# Altium schematic symbol library RLC.SchLib: 218 symbols (part 1 of 3)
Pins are listed as number, name and electrical type; pins without a type are passive.

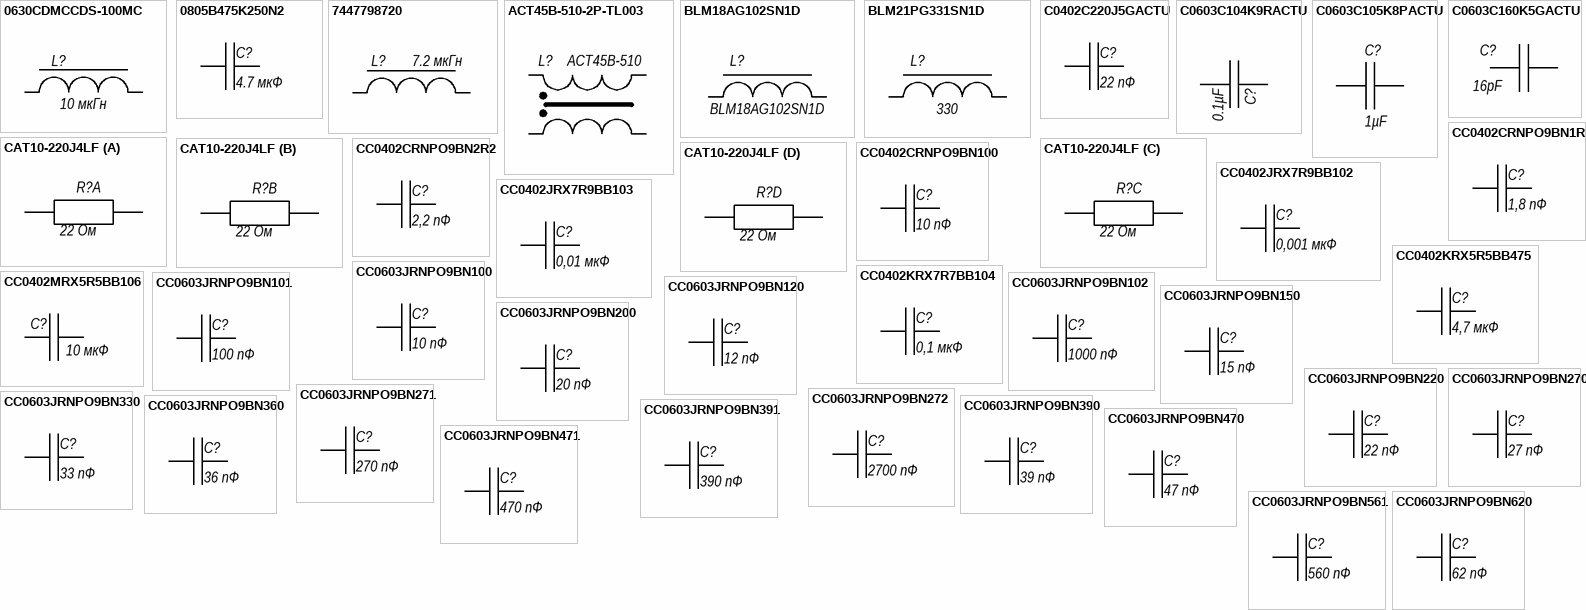
[diagram p0: symbols 0630CDMCCDS-100MC to CC0603JRNPO9BN620]

## 0630CDMCCDS-100MC
designator L?, comment 10 мкГн
0630CDMCCDS-100MC, 4A 10uH 20% 5.5A SMD,6.6x7mm Power Inductors ROHS; Manufacturer: Sumida; BOM1: SMD 10 uHr±20% 4 A; BOM2: SMD 10 мкГн±20% 4 А; ValueBOM: 0630CDMCCDS-100MC   Sumida                            (SMD 10 мкГн±20% 4 А); Part Number: 0630CDMCCDS-100MC; Value: 10 мкГн; Package: SMD 7.0mm x 6.6mm
footprint MPX1D0650 (MPX1D0650 = 6x6x5.0 mm)
pins: 1, 2

## 0805B475K250N2
designator C?, comment 4.7 мкФ
SMD 0805 -4.7 мкФ±10 %-25 В -X7R; Part Number: 0805B475K250N2; Manufacturer: HITANO; BOM1: C0805C-4.7 uF±10 %-25 V-X7R; BOM2: C0805C-4.7 мкФ ±10 % -25 В -X7R; ValueBOM: 0805B475K250N2   HITANO                            (C0805C-4.7 мкФ ±10 % -25 В -X7R); Value: 4.7 мкФ; Package: 0805
footprint CAPC_0805_2012N (Chip Capacitor, Body 2.0x1.3mm, IPC Medium Density)
footprint CAPC_0805_2012M (Chip Capacitor, Body 2.0x1.3mm, IPC Low Density)
footprint CAPC_0805_2012L (Chip Capacitor, Body 2.0x1.3mm, IPC High Density)
pins: 1, 2

## 7447798720
designator L?, comment 7.2 мкГн
WE 7447798720 Size 1064; L = 7.2 µH ±30%; IR = 8 A; Isat = 6 A; RDC = 12.8 mΩ; BOM1: WE 7447798720 7,2 uHr±30% 8 A; BOM2: WE 7447798720 7,2 мкГн±30% 8 А; ValueBOM: 7447798720   WE                            (WE 7447798720 7,2 мкГн±30% 8 А); Part Number: 7447798720; Manufacturer: WE; Value: 7.2 мкГн; Package: 1064
footprint WE-PDF_1064
pins: 1, 2

## ACT45B-510-2P-TL003
designator L?, comment ACT45B-510
51 AµH @ 100 kHz 2 Line Common Mode Choke Surface Mount 2.8 kOhms @ 10 MHz 200mA DCR 1Ohm; Part Number: ACT45B-510-2P-TL003; Manufacturer: TDK; BOM1: SMT ACT45B-510-2P-TL003; ValueBOM: ACT45B-510-2P-TL003   TDK                            (SMT ACT45B-510-2P-TL003); Value: ACT45B-510; Package: SMT ACT45B-510-2P-TL003; BOM2: SMT ACT45B-510-2P-TL003
footprint FIL_ACT45B-510-2P-TL003
pins: 1, 2, 3, 4

## BLM18AG102SN1D
designator L?
BLM18AG102SN1D Ferrite Beads Multi-Layer 1KOhm 25% 100MHz 400mA 500mOhm DCR 0603; Manufacturer: Murata; BOM1: SMD 0603 BLM18AG102SN1D; ValueBOM: BLM18AG102SN1D   Murata                            (SMD 0603 BLM18AG102SN1D); Part Number: BLM18AG102SN1D; Value: BLM18AG102SN1D; Package: 0603; BOM2: SMD 0603 BLM18AG102SN1D
footprint INDC_0603_1608N (Chip Inductor, Body 1.6x0.8mm, IPC Medium Density)
footprint INDC_0603_1608M (Chip Inductor, Body 1.6x0.8mm, IPC Low Density)
footprint INDC_0603_1608L (Chip Inductor, Body 1.6x0.8mm, IPC High Density)
pins: 1, 2

## BLM21PG331SN1D
designator L?, comment 330
BLM21PG331SN1D, Ferrite Beads Multi-Layer 330Ohm 25% 100MHz 1.5A 70mOhm DCR 0805; Manufacturer: Murata; BOM1: SMD 0805 BLM21PG331SN1D; ValueBOM: BLM21PG331SN1D   Murata                            (SMD 0805 BLM21PG331SN1D); Part Number: BLM21PG331SN1D; Value: 330; Package: 0805; BOM2: SMD 0805 BLM21PG331SN1D
footprint INDC_0805_2012N (Chip Inductor, Body 2.0x1.3mm, IPC Medium Density)
footprint INDC_0805_2012M (Chip Inductor, Body 2.0x1.3mm, IPC Low Density)
footprint INDC_0805_2012L (Chip Inductor, Body 2.0x1.3mm, IPC High Density)
pins: 1, 2

## C0402C220J5GACTU
designator C?, comment 22 пФ
SMD 0402 -22 пФ±10 %-50В -COG; Part Number: C0402C220J5GACTU; Manufacturer: Kemet; BOM1: C0402C-22 pF±10 %-50 V-COG; BOM2: C0402С-22 пФ ±10 % -50 B-COG; ValueBOM: C0402C220J5GACTU   Kemet                            (C0402С-22 пФ ±10 % -50 B-COG); Value: 22 пФ; Package: 0402
footprint CAPC_0402_1005N (Chip Capacitor, Body 1.1x0.5mm, IPC Medium Density)
footprint CAPC_0402_1005M (Chip Capacitor, Body 1.1x0.5mm, IPC Low Density)
footprint CAPC_0402_1005L (Chip Capacitor, Body 1.1x0.5mm, IPC High Density)
pins: 1, 2

## C0603C104K9RACTU
designator C?, comment 0.1µF
0603-X7R-6.3V-0.1µF±10%; Part Number: C0603C104K9RACTU; Manufacturer: Kemet; Raw Value: 100000; Tolerance: ±10%; Voltage: 6.3V; Dielectric: X7R; Value: 0.1µF; Package: 0603; Temperature Range: -50…+125 °C
footprint CAPC_0603_1608N (Chip Capacitor, Body 1.6x0.8mm, IPC Medium Density)
footprint CAPC_0603_1608M (Chip Capacitor, Body 1.6x0.8mm, IPC Low Density)
footprint CAPC_0603_1608L (Chip Capacitor, Body 1.6x0.8mm, IPC High Density)
pins: 1, 2

## C0603C105K8PACTU
designator C?, comment 1µF
0603-X5R-10V-1µF±10%; Part Number: C0603C105K8PACTU; Manufacturer: Kemet; Raw Value: 1000000; Tolerance: ±10%; Voltage: 10V; Dielectric: X5R; Value: 1µF; Package: 0603; Temperature Range: -50…+125 °C
footprint CAPC_0603_1608N (Chip Capacitor, Body 1.6x0.8mm, IPC Medium Density)
footprint CAPC_0603_1608M (Chip Capacitor, Body 1.6x0.8mm, IPC Low Density)
footprint CAPC_0603_1608L (Chip Capacitor, Body 1.6x0.8mm, IPC High Density)
pins: 1, 2

## C0603C160K5GACTU
designator C?, comment 16pF
0603-C0G-50V-16pF±10%; Part Number: C0603C160K5GACTU; Manufacturer: Kemet; Raw Value: 16; Tolerance: ±10%; Voltage: 50V; Dielectric: C0G; Value: 16pF; Package: 0603; Temperature Range: -50…+125 °C
footprint CAPC_0603_1608N (Chip Capacitor, Body 1.6x0.8mm, IPC Medium Density)
footprint CAPC_0603_1608M (Chip Capacitor, Body 1.6x0.8mm, IPC Low Density)
footprint CAPC_0603_1608L (Chip Capacitor, Body 1.6x0.8mm, IPC High Density)
pins: 1, 2

## CAT10-220J4LF
designator R?, comment 22 Ом
SMD 0804 ISO RES ARRAY 4, 22Ом 5%; Part Number: CAT10-220J4LF; Manufacturer: BOURNS; BOM1: RES ARRAY 0804 4 x 22 Ohm±5 %; BOM2: RES ARRAY 0804 4 x 22 Ом±5 %; ValueBOM: CAT10-220J4LF   BOURNS                            (RES ARRAY 0804 4 x 22 Ом±5 %); Value: 22 Ом; Package: 0804
footprint CAT10 (4 isolated resistors сoncave termination style in an 0804 size  package)
footprint Res Array 0804(4 X 0402) Concave 8-Pin SMD - duplicate (4 resistors in 2.0 mm ? 1.0 mm size / 0804 inch size)
part A pins: 1, 8
part B pins: 2, 7
part C pins: 3, 6
part D pins: 4, 5

## CC0402CRNPO9BN1R8
designator C?, comment 1,8 пФ
SMD 0402 -1,8 пФ±10 %-50В -NPO; Part Number: CC0402CRNPO9BN1R8; Manufacturer: Yageo; BOM1: C0402C-1,8 pF±10 %-50 V-NPO; BOM2: C0402С-1,8 пФ ±10 % -50 B-NPO; ValueBOM: CC0402CRNPO9BN1R8   Yageo                            (C0402С-1,8 пФ ±10 % -50 B-NPO); Value: 1,8 пФ; Package: 0402
footprint CAPC_0402_1005N (Chip Capacitor, Body 1.1x0.5mm, IPC Medium Density)
footprint CAPC_0402_1005M (Chip Capacitor, Body 1.1x0.5mm, IPC Low Density)
footprint CAPC_0402_1005L (Chip Capacitor, Body 1.1x0.5mm, IPC High Density)
pins: 1, 2

## CC0402CRNPO9BN2R2
designator C?, comment 2,2 пФ
SMD 0402 -2,2 пФ±10 %-50В -NPO; Part Number: CC0402CRNPO9BN2R2; Manufacturer: Yageo; BOM1: C0402C-2,2 pF±10 %-50 V-SMD 0402 -2,2 пФ±10 %-50В -NPO; BOM2: C0402С-2,2 пФ ±10 % -50 B-SMD 0402 -2,2 пФ±10 %-50В -NPO; ValueBOM: CC0402CRNPO9BN2R2   Yageo                            (C0402С-2,2 пФ ±10 % -50 B-SMD 0402 -2,2 пФ±10 %-50В -NPO); Value: 2,2 пФ; Package: 0402
footprint CAPC_0402_1005N (Chip Capacitor, Body 1.1x0.5mm, IPC Medium Density)
footprint CAPC_0402_1005M (Chip Capacitor, Body 1.1x0.5mm, IPC Low Density)
footprint CAPC_0402_1005L (Chip Capacitor, Body 1.1x0.5mm, IPC High Density)
pins: 1, 2

## CC0402CRNPO9BN100
designator C?, comment 10 пФ
SMD 0402 -10 пФ±10 %-50В -NPO; Part Number: CC0402CRNPO9BN100; Manufacturer: Yageo; BOM1: C0402C-10 pF±10 %-50 V-NPO; BOM2: C0402С-10 пФ ±10 % -50 B-NPO; ValueBOM: CC0402CRNPO9BN100   Yageo                            (C0402С-10 пФ ±10 % -50 B-NPO); Value: 10 пФ; Package: 0402
footprint CAPC_0402_1005N (Chip Capacitor, Body 1.1x0.5mm, IPC Medium Density)
footprint CAPC_0402_1005M (Chip Capacitor, Body 1.1x0.5mm, IPC Low Density)
footprint CAPC_0402_1005L (Chip Capacitor, Body 1.1x0.5mm, IPC High Density)
pins: 1, 2

## CC0402JRX7R9BB102
designator C?, comment 0,001 мкФ
SMD 0402 -0,001 мкФ±10 %-50В -X7R; Part Number: CC0402JRX7R9BB102; Manufacturer: Yageo; BOM1: C0402C-0,001 uF±10 %-50 V-X7R; BOM2: C0402С-0,001 мкФ ±10 % -50 B-X7R; ValueBOM: CC0402JRX7R9BB102   Yageo                            (C0402С-0,001 мкФ ±10 % -50 B-X7R); Value: 0,001 мкФ; Package: 0402
footprint CAPC_0402_1005N (Chip Capacitor, Body 1.1x0.5mm, IPC Medium Density)
footprint CAPC_0402_1005M (Chip Capacitor, Body 1.1x0.5mm, IPC Low Density)
footprint CAPC_0402_1005L (Chip Capacitor, Body 1.1x0.5mm, IPC High Density)
pins: 1, 2

## CC0402JRX7R9BB103
designator C?, comment 0,01 мкФ
SMD 0402 -0,01 мкФ±5 %-50В -X7R; Part Number: CC0402JRX7R9BB103; Manufacturer: Yageo; BOM1: C0402C-0,01 uF±5 %-50 V-X7R; BOM2: C0402С-0,01 мкФ ±5 % -50 B-X7R; ValueBOM: CC0402JRX7R9BB103   Yageo                            (C0402С-0,01 мкФ ±5 % -50 B-X7R); Value: 0,01 мкФ; Package: 0402
footprint CAPC_0402_1005N (Chip Capacitor, Body 1.1x0.5mm, IPC Medium Density)
footprint CAPC_0402_1005M (Chip Capacitor, Body 1.1x0.5mm, IPC Low Density)
footprint CAPC_0402_1005L (Chip Capacitor, Body 1.1x0.5mm, IPC High Density)
pins: 1, 2

## CC0402KRX5R5BB475
designator C?, comment 4,7 мкФ
SMD 0402 -4,7 мкФ±10 %-6,3 B-X5R; Part Number: CC0402KRX5R5BB475; Manufacturer: Yageo; BOM1: C0402C-4,7 uF±10 %-6,3 V-X5R; BOM2: C0402С-4,7 мкФ ±10 % -6,3 B-X5R; ValueBOM: CC0402KRX5R5BB475   Yageo                            (C0402С-4,7 мкФ ±10 % -6,3 B-X5R); Value: 4,7 мкФ; Package: 0402
footprint CAPC_0402_1005N (Chip Capacitor, Body 1.1x0.5mm, IPC Medium Density)
footprint CAPC_0402_1005M (Chip Capacitor, Body 1.1x0.5mm, IPC Low Density)
footprint CAPC_0402_1005L (Chip Capacitor, Body 1.1x0.5mm, IPC High Density)
pins: 1, 2

## CC0402KRX7R7BB104
designator C?, comment 0,1 мкФ
SMD 0402 -0,1 мкФ±10 %-16В -X7R; Part Number: CC0402KRX7R7BB104; Manufacturer: Yageo; BOM1: C0402C-0,1 uF±10 %-16 V-X7R; BOM2: C0402С-0,1 мкФ ±10 % -16 B-X7R; ValueBOM: CC0402KRX7R7BB104   Yageo                            (C0402С-0,1 мкФ ±10 % -16 B-X7R); Value: 0,1 мкФ; Package: 0402
footprint CAPC_0402_1005N (Chip Capacitor, Body 1.1x0.5mm, IPC Medium Density)
footprint CAPC_0402_1005M (Chip Capacitor, Body 1.1x0.5mm, IPC Low Density)
footprint CAPC_0402_1005L (Chip Capacitor, Body 1.1x0.5mm, IPC High Density)
pins: 1, 2

## CC0402MRX5R5BB106
designator C?, comment 10 мкФ
SMD 0402 -10 мкФ±10 %-6,3 B-X5R; Part Number: CC0402MRX5R5BB106; Manufacturer: Yageo; BOM1: C0402C-10 uF±10 %-6,3 V-X5R; BOM2: C0402С-10 мкФ ±10 % -6,3 B-X5R; ValueBOM: CC0402MRX5R5BB106   Yageo                            (C0402С-10 мкФ ±10 % -6,3 B-X5R); Value: 10 мкФ; Package: 0402
footprint CAPC_0402_1005N (Chip Capacitor, Body 1.1x0.5mm, IPC Medium Density)
footprint CAPC_0402_1005M (Chip Capacitor, Body 1.1x0.5mm, IPC Low Density)
footprint CAPC_0402_1005L (Chip Capacitor, Body 1.1x0.5mm, IPC High Density)
pins: 1, 2

## CC0603JRNPO9BN100
designator C?, comment 10 пФ
SMD 0603 -10 пФ±5 %-50В -NP0; Part Number: CC0603JRNPO9BN100; Manufacturer: Yageo; BOM1: C0603C-10 pF±5 %-50 V-NP0; BOM2: C0603С-10 пФ ±5 % -50 B-NPO; ValueBOM: CC0603JRNPO9BN100   Yageo                            (C0603С-10 пФ ±5 % -50 B-NPO); Value: 10 пФ; Package: 0603
footprint CAPC_0603_1608N (Chip Capacitor, Body 1.6x0.8mm, IPC Medium Density)
footprint CAPC_0603_1608M (Chip Capacitor, Body 1.6x0.8mm, IPC Low Density)
footprint CAPC_0603_1608L (Chip Capacitor, Body 1.6x0.8mm, IPC High Density)
pins: 1, 2

## CC0603JRNPO9BN101
designator C?, comment 100 пФ
SMD 0603 -100 пФ±5 %-50В -NP0; Part Number: CC0603JRNPO9BN101; Manufacturer: Yageo; BOM1: C0603C-100 pF±5 %-50 V-NP0; BOM2: C0603С-100 пФ ±5 % -50 B-NPO; ValueBOM: CC0603JRNPO9BN101   Yageo                            (C0603С-100 пФ ±5 % -50 B-NPO); Value: 100 пФ; Package: 0603
footprint CAPC_0603_1608N (Chip Capacitor, Body 1.6x0.8mm, IPC Medium Density)
footprint CAPC_0603_1608M (Chip Capacitor, Body 1.6x0.8mm, IPC Low Density)
footprint CAPC_0603_1608L (Chip Capacitor, Body 1.6x0.8mm, IPC High Density)
pins: 1, 2

## CC0603JRNPO9BN102
designator C?, comment 1000 пФ
SMD 0603 -1000 пФ±5 %-50В -NP0; Part Number: CC0603JRNPO9BN102; Manufacturer: Yageo; BOM1: C0603C-1000 pF±5 %-50 V-NP0; BOM2: C0603С-1000 пФ ±5 % -50 B-NPO; ValueBOM: CC0603JRNPO9BN102   Yageo                            (C0603С-1000 пФ ±5 % -50 B-NPO); Value: 1000 пФ; Package: 0603
footprint CAPC_0603_1608N (Chip Capacitor, Body 1.6x0.8mm, IPC Medium Density)
footprint CAPC_0603_1608M (Chip Capacitor, Body 1.6x0.8mm, IPC Low Density)
footprint CAPC_0603_1608L (Chip Capacitor, Body 1.6x0.8mm, IPC High Density)
pins: 1, 2

## CC0603JRNPO9BN120
designator C?, comment 12 пФ
SMD 0603 -12 пФ±5 %-50В -NP0; Part Number: CC0603JRNPO9BN120; Manufacturer: Yageo; BOM1: C0603C-12 pF±5 %-50 V-NP0; BOM2: C0603С-12 пФ ±5 % -50 B-NPO; ValueBOM: CC0603JRNPO9BN120   Yageo                            (C0603С-12 пФ ±5 % -50 B-NPO); Value: 12 пФ; Package: 0603
footprint CAPC_0603_1608N (Chip Capacitor, Body 1.6x0.8mm, IPC Medium Density)
footprint CAPC_0603_1608M (Chip Capacitor, Body 1.6x0.8mm, IPC Low Density)
footprint CAPC_0603_1608L (Chip Capacitor, Body 1.6x0.8mm, IPC High Density)
pins: 1, 2

## CC0603JRNPO9BN150
designator C?, comment 15 пФ
SMD 0603 -15 пФ±5 %-50В -NP0; Part Number: CC0603JRNPO9BN150; Manufacturer: Yageo; BOM1: C0603C-15 pF±5 %-50 V-NP0; BOM2: C0603С-15 пФ ±5 % -50 B-NPO; ValueBOM: CC0603JRNPO9BN150   Yageo                            (C0603С-15 пФ ±5 % -50 B-NPO); Value: 15 пФ; Package: 0603
footprint CAPC_0603_1608N (Chip Capacitor, Body 1.6x0.8mm, IPC Medium Density)
footprint CAPC_0603_1608M (Chip Capacitor, Body 1.6x0.8mm, IPC Low Density)
footprint CAPC_0603_1608L (Chip Capacitor, Body 1.6x0.8mm, IPC High Density)
pins: 1, 2

## CC0603JRNPO9BN200
designator C?, comment 20 пФ
SMD 0603 -20 пФ±5 %-50В -NP0; Part Number: CC0603JRNPO9BN200; Manufacturer: Yageo; BOM1: C0603C-20 pF±5 %-50 V-NP0; BOM2: C0603С-20 пФ ±5 % -50 B-NPO; ValueBOM: CC0603JRNPO9BN200   Yageo                            (C0603С-20 пФ ±5 % -50 B-NPO); Value: 20 пФ; Package: 0603
footprint CAPC_0603_1608N (Chip Capacitor, Body 1.6x0.8mm, IPC Medium Density)
footprint CAPC_0603_1608M (Chip Capacitor, Body 1.6x0.8mm, IPC Low Density)
footprint CAPC_0603_1608L (Chip Capacitor, Body 1.6x0.8mm, IPC High Density)
pins: 1, 2

## CC0603JRNPO9BN220
designator C?, comment 22 пФ
SMD 0603 -22 пФ±5 %-50В -NP0; Part Number: CC0603JRNPO9BN220; Manufacturer: Yageo; BOM1: C0603C-22 pF±5 %-50 V-NP0; BOM2: C0603С-22 пФ ±5 % -50 B-NPO; ValueBOM: CC0603JRNPO9BN220   Yageo                            (C0603С-22 пФ ±5 % -50 B-NPO); Value: 22 пФ; Package: 0603
footprint CAPC_0603_1608N (Chip Capacitor, Body 1.6x0.8mm, IPC Medium Density)
footprint CAPC_0603_1608M (Chip Capacitor, Body 1.6x0.8mm, IPC Low Density)
footprint CAPC_0603_1608L (Chip Capacitor, Body 1.6x0.8mm, IPC High Density)
pins: 1, 2

## CC0603JRNPO9BN270
designator C?, comment 27 пФ
SMD 0603 -27 пФ±5 %-50В -NP0; Part Number: CC0603JRNPO9BN270; Manufacturer: Yageo; BOM1: C0603C-27 pF±5 %-50 V-NP0; BOM2: C0603С-27 пФ ±5 % -50 B-NPO; ValueBOM: CC0603JRNPO9BN270   Yageo                            (C0603С-27 пФ ±5 % -50 B-NPO); Value: 27 пФ; Package: 0603
footprint CAPC_0603_1608N (Chip Capacitor, Body 1.6x0.8mm, IPC Medium Density)
footprint CAPC_0603_1608M (Chip Capacitor, Body 1.6x0.8mm, IPC Low Density)
footprint CAPC_0603_1608L (Chip Capacitor, Body 1.6x0.8mm, IPC High Density)
pins: 1, 2

## CC0603JRNPO9BN271
designator C?, comment 270 пФ
SMD 0603 -270 пФ±5 %-50В -NP0; Part Number: CC0603JRNPO9BN271; Manufacturer: Yageo; BOM1: C0603C-270 pF±5 %-50 V-NP0; BOM2: C0603С-270 пФ ±5 % -50 B-NPO; ValueBOM: CC0603JRNPO9BN271   Yageo                            (C0603С-270 пФ ±5 % -50 B-NPO); Value: 270 пФ; Package: 0603
footprint CAPC_0603_1608N (Chip Capacitor, Body 1.6x0.8mm, IPC Medium Density)
footprint CAPC_0603_1608M (Chip Capacitor, Body 1.6x0.8mm, IPC Low Density)
footprint CAPC_0603_1608L (Chip Capacitor, Body 1.6x0.8mm, IPC High Density)
pins: 1, 2

## CC0603JRNPO9BN272
designator C?, comment 2700 пФ
SMD 0603 -2700 пФ±5 %-50В -NP0; Part Number: CC0603JRNPO9BN272; Manufacturer: Yageo; BOM1: C0603C-2700 pF±5 %-50 V-NP0; BOM2: C0603С-2700 пФ ±5 % -50 B-NPO; ValueBOM: CC0603JRNPO9BN272   Yageo                            (C0603С-2700 пФ ±5 % -50 B-NPO); Value: 2700 пФ; Package: 0603
footprint CAPC_0603_1608N (Chip Capacitor, Body 1.6x0.8mm, IPC Medium Density)
footprint CAPC_0603_1608M (Chip Capacitor, Body 1.6x0.8mm, IPC Low Density)
footprint CAPC_0603_1608L (Chip Capacitor, Body 1.6x0.8mm, IPC High Density)
pins: 1, 2

## CC0603JRNPO9BN330
designator C?, comment 33 пФ
SMD 0603 -33 пФ±5 %-50В -NP0; Part Number: CC0603JRNPO9BN330; Manufacturer: Yageo; BOM1: C0603C-33 pF±5 %-50 V-NP0; BOM2: C0603С-33 пФ ±5 % -50 B-NPO; ValueBOM: CC0603JRNPO9BN330   Yageo                            (C0603С-33 пФ ±5 % -50 B-NPO); Value: 33 пФ; Package: 0603
footprint CAPC_0603_1608N (Chip Capacitor, Body 1.6x0.8mm, IPC Medium Density)
footprint CAPC_0603_1608M (Chip Capacitor, Body 1.6x0.8mm, IPC Low Density)
footprint CAPC_0603_1608L (Chip Capacitor, Body 1.6x0.8mm, IPC High Density)
pins: 1, 2

## CC0603JRNPO9BN360
designator C?, comment 36 пФ
SMD 0603 -36 пФ±5 %-50В -NP0; Part Number: CC0603JRNPO9BN360; Manufacturer: Yageo; BOM1: C0603C-36 pF±5 %-50 V-NP0; BOM2: C0603С-36 пФ ±5 % -50 B-NPO; ValueBOM: CC0603JRNPO9BN360   Yageo                            (C0603С-36 пФ ±5 % -50 B-NPO); Value: 36 пФ; Package: 0603
footprint CAPC_0603_1608N (Chip Capacitor, Body 1.6x0.8mm, IPC Medium Density)
footprint CAPC_0603_1608M (Chip Capacitor, Body 1.6x0.8mm, IPC Low Density)
footprint CAPC_0603_1608L (Chip Capacitor, Body 1.6x0.8mm, IPC High Density)
pins: 1, 2

## CC0603JRNPO9BN390
designator C?, comment 39 пФ
SMD 0603 -39 пФ±5 %-50В -NP0; Part Number: CC0603JRNPO9BN390; Manufacturer: Yageo; BOM1: C0603C-39 pF±5 %-50 V-NP0; BOM2: C0603С-39 пФ ±5 % -50 B-NPO; ValueBOM: CC0603JRNPO9BN390   Yageo                            (C0603С-39 пФ ±5 % -50 B-NPO); Value: 39 пФ; Package: 0603
footprint CAPC_0603_1608N (Chip Capacitor, Body 1.6x0.8mm, IPC Medium Density)
footprint CAPC_0603_1608M (Chip Capacitor, Body 1.6x0.8mm, IPC Low Density)
footprint CAPC_0603_1608L (Chip Capacitor, Body 1.6x0.8mm, IPC High Density)
pins: 1, 2

## CC0603JRNPO9BN391
designator C?, comment 390 пФ
SMD 0603 -390 пФ±5 %-50В -NP0; Part Number: CC0603JRNPO9BN391; Manufacturer: Yageo; BOM1: C0603C-390 pF±5 %-50 V-NP0; BOM2: C0603С-390 пФ ±5 % -50 B-NPO; ValueBOM: CC0603JRNPO9BN391   Yageo                            (C0603С-390 пФ ±5 % -50 B-NPO); Value: 390 пФ; Package: 0603
footprint CAPC_0603_1608N (Chip Capacitor, Body 1.6x0.8mm, IPC Medium Density)
footprint CAPC_0603_1608M (Chip Capacitor, Body 1.6x0.8mm, IPC Low Density)
footprint CAPC_0603_1608L (Chip Capacitor, Body 1.6x0.8mm, IPC High Density)
pins: 1, 2

## CC0603JRNPO9BN470
designator C?, comment 47 пФ
SMD 0603 -47 пФ±5 %-50В -NP0; Part Number: CC0603JRNPO9BN470; Manufacturer: Yageo; BOM1: C0603C-47 pF±5 %-50 V-NP0; BOM2: C0603С-47 пФ ±5 % -50 B-NPO; ValueBOM: CC0603JRNPO9BN470   Yageo                            (C0603С-47 пФ ±5 % -50 B-NPO); Value: 47 пФ; Package: 0603
footprint CAPC_0603_1608N (Chip Capacitor, Body 1.6x0.8mm, IPC Medium Density)
footprint CAPC_0603_1608M (Chip Capacitor, Body 1.6x0.8mm, IPC Low Density)
footprint CAPC_0603_1608L (Chip Capacitor, Body 1.6x0.8mm, IPC High Density)
pins: 1, 2

## CC0603JRNPO9BN471
designator C?, comment 470 пФ
SMD 0603 -470 пФ±5 %-50В -NP0; Part Number: CC0603JRNPO9BN471; Manufacturer: Yageo; BOM1: C0603C-470 pF±5 %-50 V-NP0; BOM2: C0603С-470 пФ ±5 % -50 B-NPO; ValueBOM: CC0603JRNPO9BN471   Yageo                            (C0603С-470 пФ ±5 % -50 B-NPO); Value: 470 пФ; Package: 0603
footprint CAPC_0603_1608N (Chip Capacitor, Body 1.6x0.8mm, IPC Medium Density)
footprint CAPC_0603_1608M (Chip Capacitor, Body 1.6x0.8mm, IPC Low Density)
footprint CAPC_0603_1608L (Chip Capacitor, Body 1.6x0.8mm, IPC High Density)
pins: 1, 2

## CC0603JRNPO9BN561
designator C?, comment 560 пФ
SMD 0603 -560 пФ±5 %-50В -NP0; Part Number: CC0603JRNPO9BN561; Manufacturer: Yageo; BOM1: C0603C-560 pF±5 %-50 V-NP0; BOM2: C0603С-560 пФ ±5 % -50 B-NPO; ValueBOM: CC0603JRNPO9BN561   Yageo                            (C0603С-560 пФ ±5 % -50 B-NPO); Value: 560 пФ; Package: 0603
footprint CAPC_0603_1608N (Chip Capacitor, Body 1.6x0.8mm, IPC Medium Density)
footprint CAPC_0603_1608M (Chip Capacitor, Body 1.6x0.8mm, IPC Low Density)
footprint CAPC_0603_1608L (Chip Capacitor, Body 1.6x0.8mm, IPC High Density)
pins: 1, 2

## CC0603JRNPO9BN620
designator C?, comment 62 пФ
SMD 0603 -62 пФ±5 %-50В -NP0; Part Number: CC0603JRNPO9BN620; Manufacturer: Yageo; BOM1: C0603C-62 pF±5 %-50 V-NP0; BOM2: C0603С-62 пФ ±5 % -50 B-NPO; ValueBOM: CC0603JRNPO9BN620   Yageo                            (C0603С-62 пФ ±5 % -50 B-NPO); Value: 62 пФ; Package: 0603
footprint CAPC_0603_1608N (Chip Capacitor, Body 1.6x0.8mm, IPC Medium Density)
footprint CAPC_0603_1608M (Chip Capacitor, Body 1.6x0.8mm, IPC Low Density)
footprint CAPC_0603_1608L (Chip Capacitor, Body 1.6x0.8mm, IPC High Density)
pins: 1, 2

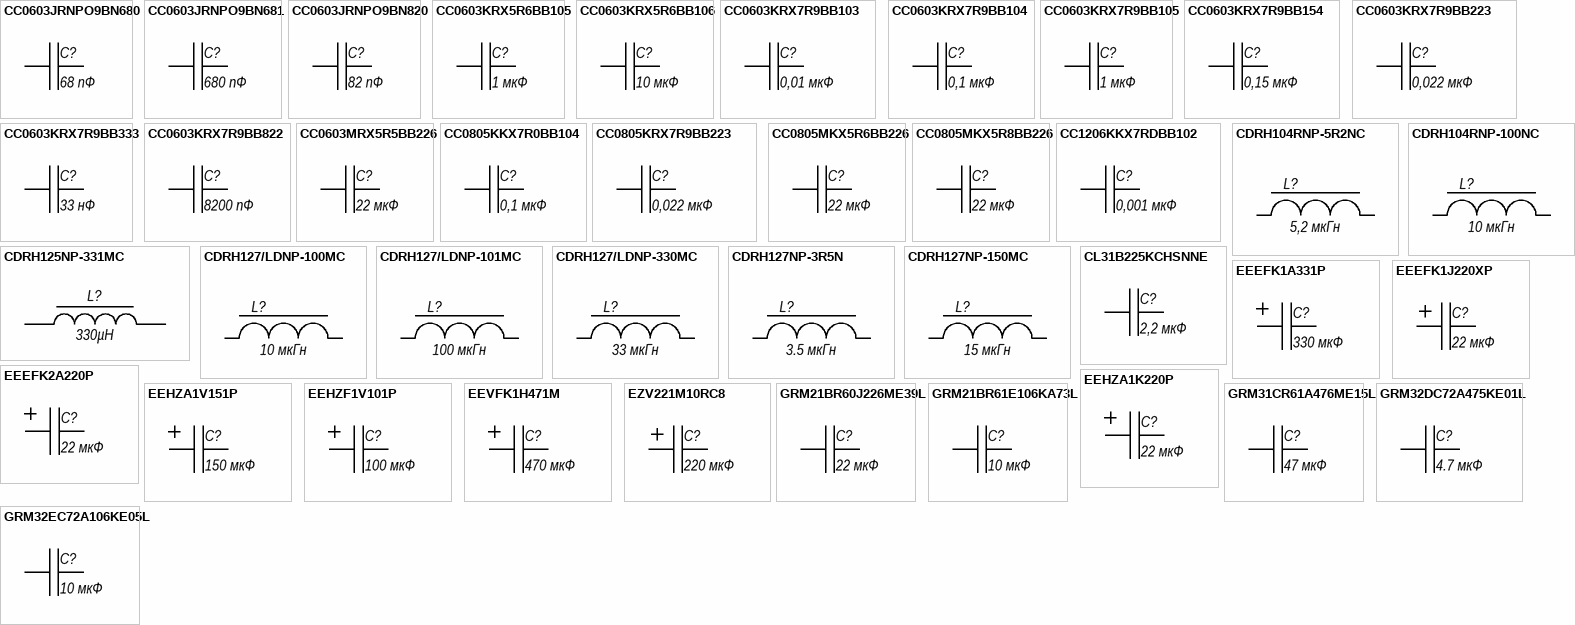
[diagram p1: symbols CC0603JRNPO9BN680 to GRM32EC72A106KE05L]

## CC0603JRNPO9BN680
designator C?, comment 68 пФ
SMD 0603 -68 пФ±5 %-50В -NP0; Part Number: CC0603JRNPO9BN680; Manufacturer: Yageo; BOM1: C0603C-68 pF±5 %-50 V-NP0; BOM2: C0603С-68 пФ ±5 % -50 B-NPO; ValueBOM: CC0603JRNPO9BN680   Yageo                            (C0603С-68 пФ ±5 % -50 B-NPO); Value: 68 пФ; Package: 0603
footprint CAPC_0603_1608N (Chip Capacitor, Body 1.6x0.8mm, IPC Medium Density)
footprint CAPC_0603_1608M (Chip Capacitor, Body 1.6x0.8mm, IPC Low Density)
footprint CAPC_0603_1608L (Chip Capacitor, Body 1.6x0.8mm, IPC High Density)
pins: 1, 2

## CC0603JRNPO9BN681
designator C?, comment 680 пФ
SMD 0603 -680 пФ±5 %-50В -NP0; Part Number: CC0603JRNPO9BN681; Manufacturer: Yageo; BOM1: C0603C-680 pF±5 %-50 V-NP0; BOM2: C0603С-680 пФ ±5 % -50 B-NPO; ValueBOM: CC0603JRNPO9BN681   Yageo                            (C0603С-680 пФ ±5 % -50 B-NPO); Value: 680 пФ; Package: 0603
footprint CAPC_0603_1608N (Chip Capacitor, Body 1.6x0.8mm, IPC Medium Density)
footprint CAPC_0603_1608M (Chip Capacitor, Body 1.6x0.8mm, IPC Low Density)
footprint CAPC_0603_1608L (Chip Capacitor, Body 1.6x0.8mm, IPC High Density)
pins: 1, 2

## CC0603JRNPO9BN820
designator C?, comment 82 пФ
SMD 0603 -82 пФ±5 %-50В -NP0; Part Number: CC0603JRNPO9BN820; Manufacturer: Yageo; BOM1: C0603C-82 pF±5 %-50 V-NP0; BOM2: C0603С-82 пФ ±5 % -50 B-NPO; ValueBOM: CC0603JRNPO9BN820   Yageo                            (C0603С-82 пФ ±5 % -50 B-NPO); Value: 82 пФ; Package: 0603
footprint CAPC_0603_1608N (Chip Capacitor, Body 1.6x0.8mm, IPC Medium Density)
footprint CAPC_0603_1608M (Chip Capacitor, Body 1.6x0.8mm, IPC Low Density)
footprint CAPC_0603_1608L (Chip Capacitor, Body 1.6x0.8mm, IPC High Density)
pins: 1, 2

## CC0603KRX5R6BB105
designator C?, comment 1 мкФ
SMD 0603 -1 мкФ±10 %-10 B-X5R; Part Number: CC0603KRX5R6BB105; Manufacturer: Yageo; BOM1: C0603C-1 uF±10 %-10 V-X5R; BOM2: C0603С-1 мкФ ±10 % -10 B-X5R; ValueBOM: CC0603KRX5R6BB105   Yageo                            (C0603С-1 мкФ ±10 % -10 B-X5R); Value: 1 мкФ; Package: 0603
footprint CAPC_0603_1608N (Chip Capacitor, Body 1.6x0.8mm, IPC Medium Density)
footprint CAPC_0603_1608M (Chip Capacitor, Body 1.6x0.8mm, IPC Low Density)
footprint CAPC_0603_1608L (Chip Capacitor, Body 1.6x0.8mm, IPC High Density)
pins: 1, 2

## CC0603KRX5R6BB106
designator C?, comment 10 мкФ
SMD 0603 -10 мкФ±10 %-10 B-X5R; Part Number: CC0603KRX5R6BB106; Manufacturer: Yageo; BOM1: C0603C-10 uF±10 %-10 V-X5R; BOM2: C0603С-10 мкФ ±10 % -10 B-X5R; ValueBOM: CC0603KRX5R6BB106   Yageo                            (C0603С-10 мкФ ±10 % -10 B-X5R); Value: 10 мкФ; Package: 0603
footprint CAPC_0603_1608N (Chip Capacitor, Body 1.6x0.8mm, IPC Medium Density)
footprint CAPC_0603_1608M (Chip Capacitor, Body 1.6x0.8mm, IPC Low Density)
footprint CAPC_0603_1608L (Chip Capacitor, Body 1.6x0.8mm, IPC High Density)
pins: 1, 2

## CC0603KRX7R9BB103
designator C?, comment 0,01 мкФ
SMD 0603 -0,01 мкФ±5 %-50В -X7R; Part Number: CC0603KRX7R9BB103; Manufacturer: Yageo; BOM1: C0603C-0.01 uF ±5 % -50 V-X7R; BOM2: C0603С-0,01 мкФ ±5 % -50 B-X7R; ValueBOM: CC0603KRX7R9BB103   Yageo                            (C0603С-0,01 мкФ ±5 % -50 B-X7R); Value: 0,01 мкФ; Package: 0603
footprint CAPC_0603_1608N (Chip Capacitor, Body 1.6x0.8mm, IPC Medium Density)
footprint CAPC_0603_1608M (Chip Capacitor, Body 1.6x0.8mm, IPC Low Density)
footprint CAPC_0603_1608L (Chip Capacitor, Body 1.6x0.8mm, IPC High Density)
pins: 1, 2

## CC0603KRX7R9BB104
designator C?, comment 0,1 мкФ
SMD 0603 -0,1 мкФ±10 %-50В -X7R; Part Number: CC0603KRX7R9BB104; Manufacturer: Yageo; BOM1: C0603C-0,1 uF±10 %-50 V-X7R; BOM2: C0603С-0,1 мкФ ±5 % -50 B-X7R; ValueBOM: CC0603KRX7R9BB104   Yageo                            (C0603С-0,1 мкФ ±5 % -50 B-X7R); Value: 0,1 мкФ; Package: 0603
footprint CAPC_0603_1608N (Chip Capacitor, Body 1.6x0.8mm, IPC Medium Density)
footprint CAPC_0603_1608M (Chip Capacitor, Body 1.6x0.8mm, IPC Low Density)
footprint CAPC_0603_1608L (Chip Capacitor, Body 1.6x0.8mm, IPC High Density)
pins: 1, 2

## CC0603KRX7R9BB105
designator C?, comment 1 мкФ
SMD 0603 -1 мкФ±10 %-50В -X7R; Part Number: CC0603KRX7R9BB105; Manufacturer: Yageo; BOM1: C0603C-1 uF±10 %-50 V-X7R; BOM2: C0603С-1 мкФ ±5 % -50 B-X7R; ValueBOM: CC0603KRX7R9BB105   Yageo                            (C0603С-1 мкФ ±5 % -50 B-X7R); Value: 1 мкФ; Package: 0603
footprint CAPC_0603_1608N (Chip Capacitor, Body 1.6x0.8mm, IPC Medium Density)
footprint CAPC_0603_1608M (Chip Capacitor, Body 1.6x0.8mm, IPC Low Density)
footprint CAPC_0603_1608L (Chip Capacitor, Body 1.6x0.8mm, IPC High Density)
pins: 1, 2

## CC0603KRX7R9BB154
designator C?, comment 0,15 мкФ
SMD 0603 -0,15 мкФ±10 %-50В -X7R; Part Number: CC0603KRX7R9BB154; Manufacturer: Yageo; BOM1: C0603C-0,15 uF±10 %-50 V-X7R; BOM2: C0603С-0,15 мкФ ±10 % -50 B-X7R; ValueBOM: CC0603KRX7R9BB154   Yageo                            (C0603С-0,15 мкФ ±10 % -50 B-X7R); Value: 0,15 мкФ; Package: 0603
footprint CAPC_0603_1608N (Chip Capacitor, Body 1.6x0.8mm, IPC Medium Density)
footprint CAPC_0603_1608M (Chip Capacitor, Body 1.6x0.8mm, IPC Low Density)
footprint CAPC_0603_1608L (Chip Capacitor, Body 1.6x0.8mm, IPC High Density)
pins: 1, 2

## CC0603KRX7R9BB223
designator C?, comment 0,022 мкФ
SMD 0603 -0,022 мкФ±5 %-50В -X7R; Part Number: CC0603KRX7R9BB223; Manufacturer: Yageo; BOM1: C0603C-0,022 uF ±5 %-50 V-X7R; BOM2: C0603С-0,022 мкФ ±5 % -50 B-X7R; ValueBOM: CC0603KRX7R9BB223   Yageo                            (C0603С-0,022 мкФ ±5 % -50 B-X7R); Value: 0,022 мкФ; Package: 0603
footprint CAPC_0603_1608N (Chip Capacitor, Body 1.6x0.8mm, IPC Medium Density)
footprint CAPC_0603_1608M (Chip Capacitor, Body 1.6x0.8mm, IPC Low Density)
footprint CAPC_0603_1608L (Chip Capacitor, Body 1.6x0.8mm, IPC High Density)
pins: 1, 2

## CC0603KRX7R9BB333
designator C?, comment 33 нФ
SMD 0603 -0,033 мкФ±10 %-50В -X7R; Part Number: CC0603KRX7R9BB333; Manufacturer: Yageo; BOM1: C0603C-0.033u F±10 %-50 V-X7R; BOM2: C0603С-0.033 мкФ ±10 % -50 B-X7R; ValueBOM: CC0603KRX7R9BB333   Yageo                            (C0603С-0.033 мкФ ±10 % -50 B-X7R); Value: 33 нФ; Package: 0603
footprint CAPC_0603_1608N (Chip Capacitor, Body 1.6x0.8mm, IPC Medium Density)
footprint CAPC_0603_1608M (Chip Capacitor, Body 1.6x0.8mm, IPC Low Density)
footprint CAPC_0603_1608L (Chip Capacitor, Body 1.6x0.8mm, IPC High Density)
pins: 1, 2

## CC0603KRX7R9BB822
designator C?, comment 8200 пФ
SMD 0603 -8200 пФ±5 %-50В -X7R; Part Number: CC0603KRX7R9BB822; Manufacturer: Yageo; BOM1: C0603C-8200 pF±5 %-50 V-X7R; BOM2: C0603С-8200 пФ ±5 % -50 B-X7R; ValueBOM: CC0603KRX7R9BB822   Yageo                            (C0603С-8200 пФ ±5 % -50 B-X7R); Value: 8200 пФ; Package: 0603
footprint CAPC_0603_1608N (Chip Capacitor, Body 1.6x0.8mm, IPC Medium Density)
footprint CAPC_0603_1608M (Chip Capacitor, Body 1.6x0.8mm, IPC Low Density)
footprint CAPC_0603_1608L (Chip Capacitor, Body 1.6x0.8mm, IPC High Density)
pins: 1, 2

## CC0603MRX5R5BB226
designator C?, comment 22 мкФ
SMD 0603 -22 мкФ±10 %-6,3 B-X5R; Part Number: CC0603MRX5R5BB226; Manufacturer: Yageo; BOM1: C0603C-22 uF±10 %-6,3 V-X5R; BOM2: C0603С-22 мкФ ±10 % -6,3 B-X5R; ValueBOM: CC0603MRX5R5BB226   Yageo                            (C0603С-22 мкФ ±10 % -6,3 B-X5R); Value: 22 мкФ; Package: 0603
footprint CAPC_0603_1608N (Chip Capacitor, Body 1.6x0.8mm, IPC Medium Density)
footprint CAPC_0603_1608M (Chip Capacitor, Body 1.6x0.8mm, IPC Low Density)
footprint CAPC_0603_1608L (Chip Capacitor, Body 1.6x0.8mm, IPC High Density)
pins: 1, 2

## CC0805KKX7R0BB104
designator C?, comment 0,1 мкФ
SMD 0805 -0,1 мкФ±10 %-100В -X7R; Part Number: CC0805KKX7R0BB104; Manufacturer: Yageo; BOM1: C0805C-0,1 uF±10 %-100 V-X7R; BOM2: C0805С-0,1 мкФ ±10 % -100 B-X7R; ValueBOM: CC0805KKX7R0BB104   Yageo                            (C0805С-0,1 мкФ ±10 % -100 B-X7R); Value: 0,1 мкФ; Package: 0805
footprint CAPC_0805_2012N (Chip Capacitor, Body 2.0x1.3mm, IPC Medium Density)
footprint CAPC_0805_2012M (Chip Capacitor, Body 2.0x1.3mm, IPC Low Density)
footprint CAPC_0805_2012L (Chip Capacitor, Body 2.0x1.3mm, IPC High Density)
pins: 1, 2

## CC0805KRX7R9BB223
designator C?, comment 0,022 мкФ
SMD 0805 -0,022 мкФ±10 %-100В -X7R; Part Number: CC0805KRX7R9BB223; Manufacturer: Yageo; BOM1: C0805C-0,022 uF±10 %-100 V-X7R; BOM2: C0805С-0,022 мкФ ±10 % -100 B-X7R; ValueBOM: CC0805KRX7R9BB223   Yageo                            (C0805С-0,022 мкФ ±10 % -100 B-X7R); Value: 0,022 мкФ; Package: 0805
footprint CAPC_0805_2012N (Chip Capacitor, Body 2.0x1.3mm, IPC Medium Density)
footprint CAPC_0805_2012M (Chip Capacitor, Body 2.0x1.3mm, IPC Low Density)
footprint CAPC_0805_2012L (Chip Capacitor, Body 2.0x1.3mm, IPC High Density)
pins: 1, 2

## CC0805MKX5R6BB226
designator C?, comment 22 мкФ
SMD 0805 -22 мкФ±20 %-10 В -X5R; Part Number: CC0805MKX5R6BB226; Manufacturer: Yageo; BOM1: C0805C-22 uF±20 %-10 V-X5R; BOM2: C0805С-22 мкФ ±20 % -10 B-X5R; ValueBOM: CC0805MKX5R6BB226   Yageo                            (C0805С-22 мкФ ±20 % -10 B-X5R); Value: 22 мкФ; Package: 0805
footprint CAPC_0805_2012N (Chip Capacitor, Body 2.0x1.3mm, IPC Medium Density)
footprint CAPC_0805_2012M (Chip Capacitor, Body 2.0x1.3mm, IPC Low Density)
footprint CAPC_0805_2012L (Chip Capacitor, Body 2.0x1.3mm, IPC High Density)
pins: 1, 2

## CC0805MKX5R8BB226
designator C?, comment 22 мкФ
SMD 0805 -22 мкФ±20 %-25 В -X5R; Part Number: CC0805MKX5R8BB226; Manufacturer: Yageo; BOM1: C0805C-22 uF±20 %-25V-X5R; BOM2: C0805С-22 мкФ ±20 % -25 B-X5R; ValueBOM: CC0805MKX5R8BB226   Yageo                            (C0805С-22 мкФ ±20 % -25 B-X5R); Value: 22 мкФ; Package: 0805
footprint CAPC_0805_2012N (Chip Capacitor, Body 2.0x1.3mm, IPC Medium Density)
footprint CAPC_0805_2012M (Chip Capacitor, Body 2.0x1.3mm, IPC Low Density)
footprint CAPC_0805_2012L (Chip Capacitor, Body 2.0x1.3mm, IPC High Density)
pins: 1, 2

## CC1206KKX7RDBB102
designator C?, comment 0,001 мкФ
SMD 1206 -0,001 мкФ±10 %-2000В -X7R; Part Number: CC1206KKX7RDBB102; Manufacturer: Yageo; BOM1: C1206C-0,001 uF±10 %-2000 V-X7R; BOM2: CC1206 ±10%-2000 В-X7R-1000 пФ; ValueBOM: CC1206KKX7RDBB102   Yageo                            (CC1206 ±10%-2000 В-X7R-1000 пФ); Value: 0,001 мкФ; Package: 1206
footprint CAPC_1206_3216N (Chip Capacitor, Body 3.2x1.6mm, IPC Medium Density)
footprint CAPC_1206_3216M (Chip Capacitor, Body 3.2x1.6mm, IPC Low Density)
footprint CAPC_1206_3216L (Chip Capacitor, Body 3.2x1.6mm, IPC High Density)
pins: 1, 2

## CDRH104RNP-5R2NC
designator L?, comment 5,2 мкГн
SMD 10.5*10.3*4 CDRH104R Power SMD inductor 5,2 uHr±20% 5.5A 0.022Ohm with magnetic shield; Part Number: CDRH104RNP-5R2NC; Manufacturer: Sumida; BOM1: SMD CDRH104R 5,2 uHr±20% 5,5 A; BOM2: SMD CDRH104R 5,2 uHr±20% 5,5 А; ValueBOM: CDRH104RNP-5R2NC   Sumida                            (SMD CDRH104R 5,2 uHr±20% 5,5 А); Value: 5,2 мкГн; Package: SMD 10.5*10.3*4 CDRH104R
footprint CDRH104R
pins: 1, 2

## CDRH104RNP-100NC
designator L?, comment 10 мкГн
SMD 10.5*10.3*4 CDRH104R Power SMD inductor 10 uHr±30% 4.48A 0.026Ohm with magnetic shield; Part Number: CDRH104RNP-100NC; Manufacturer: Sumida; BOM1: SMD CDRH104RNP 10 uHr±30% 4.48 A; BOM2: SMD CDRH104RNP 10 uHr±30% 4,48 А; ValueBOM: CDRH104RNP-100NC   Sumida                            (SMD CDRH104RNP 10 uHr±30% 4,48 А); Value: 10 мкГн; Package: SMD 10.5*10.3*4 CDRH104RNP
footprint CDRH104R
pins: 1, 2

## CDRH125NP-331MC
designator L?, comment 330µH
12x5-330µH±20%; Part Number: CDRH125NP-331MC; Manufacturer: Sumida; Raw Value: 330000; Tolerance: ±20%; Type: Power; Is Shielded: Yes; DCR: 0.51Ω; Irms: 0.68A; Value: 330µH; Package: 12x12x6mm; Temperature Range: -40…+100°C; SRF: N/A
footprint CDRH127LD (SMD 12.3*12.3*8)
pins: 1 "Exposed die attach pad", 2 "Exposed die attach pad"

## CDRH127/LDNP-100MC
designator L?, comment 10 мкГн
SMD 12.3*12.3*8 CDRH127LD Power SMD inductor 10 uHr±20% 6.7A 0.015Ohm with magnetic shield; Part Number: CDRH127/LDNP-100MC; Manufacturer: Sumida; BOM1: SMD CDRH127LD 10 uHr±20% 6.7 A; BOM2: SMD CDRH127LD 10 uHr±20% 6,7 А; ValueBOM: CDRH127/LDNP-100MC   Sumida                            (SMD CDRH127LD 10 uHr±20% 6,7 А); Value: 10 мкГн; Package: SMD 12.3*12.3*8 CDRH127LD
footprint CDRH127LD (SMD 12.3*12.3*8)
pins: 1, 2

## CDRH127/LDNP-101MC
designator L?, comment 100 мкГн
SMD 12.3*12.3*8 CDRH127LD Power SMD inductor 100 uH±20% 1.8A 0.119Ohm with magnetic shield; Part Number: CDRH127/LDNP-101MC; Manufacturer: Sumida; BOM1: SMD CDRH127LD 100 uHr±20% 1,8 A; BOM2: SMD CDRH127LD 100 uHr±20% 1,8 А; ValueBOM: CDRH127/LDNP-101MC   Sumida                            (SMD CDRH127LD 100 uHr±20% 1,8 А); Value: 100 мкГн; Package: SMD 12.3*12.3*8 CDRH127LD
footprint CDRH127LD (SMD 12.3*12.3*8)
pins: 1, 2

## CDRH127/LDNP-330MC
designator L?, comment 33 мкГн
SMD 12.3*12.3*8 CDRH127LD Power SMD inductor 33uH±20% 3.9A 0.041Ohm with magnetic shield; Part Number: CDRH127/LDNP-330MC; Manufacturer: Sumida; BOM1: SMD CDRH127LD 33 uHr±20% 3,9 A; BOM2: SMD CDRH127LD 33 мкГн±20% 3,9 А; ValueBOM: CDRH127/LDNP-330MC   Sumida                            (SMD CDRH127LD 33 мкГн±20% 3,9 А); Value: 33 мкГн; Package: SMD 12.3*12.3*8 CDRH127LD
footprint CDRH127LD (SMD 12.3*12.3*8)
pins: 1, 2

## CDRH127NP-3R5N
designator L?, comment 3.5 мкГн
SMD Power Inductor 3.5uH +40%-20% 7.5A 0.01Om magnetically shielded; Part Number: CDRH127NP-3R5N; Manufacturer: SUMIDA; BOM1: SMD CDRH127NP-3R5N 3.5 uHr±20% 7.5A; ValueBOM: CDRH127NP-3R5N   SUMIDA                            (SMD CDRH127NP-3R5N 3.5 uHr±20% 7.5A); Value: 3.5 мкГн; Package: SMD 12.3*12.3*8 CDRH127; BOM2: SMD CDRH127NP-3R5N 3.5 uHr±20% 7.5A
footprint CDRH127LD (SMD 12.3*12.3*8)
pins: 1, 2

## CDRH127NP-150MC
designator L?, comment 15 мкГн
SMD 12.3*12.3*8 CDRH127LD Power SMD inductor 15 uHr±20% 4.5A 0.027Ohm with magnetic shield; Part Number: CDRH127NP-150MC; Manufacturer: Sumida; BOM1: SMD CDRH127LD 15 uHr±20% 4.5 A; BOM2: SMD CDRH127LD 15 uHr±20% 4,5 А; ValueBOM: CDRH127NP-150MC   Sumida                            (SMD CDRH127LD 15 uHr±20% 4,5 А); Value: 15 мкГн; Package: SMD 12.3*12.3*8 CDRH127LD
footprint CDRH127LD (SMD 12.3*12.3*8)
pins: 1, 2

## CL31B225KCHSNNE
designator C?, comment 2,2 мкФ
SMD 1206 -2,2 мкФ±10 %-100В -X5R; Part Number: CL31B225KCHSNNE; Manufacturer: Samsung Electronics; BOM1: C1206C-2,2 uF±10 %-100 V-X5R; BOM2: CL31-X5R-2,2 мкФ ±10 % -100 В; ValueBOM: CL31B225KCHSNNE   Samsung Electronics                            (CL31-X5R-2,2 мкФ ±10 % -100 В); Value: 2,2 мкФ; Package: 1206
footprint CAPC_1206_3216N (Chip Capacitor, Body 3.2x1.6mm, IPC Medium Density)
footprint CAPC_1206_3216M (Chip Capacitor, Body 3.2x1.6mm, IPC Low Density)
footprint CAPC_1206_3216L (Chip Capacitor, Body 3.2x1.6mm, IPC High Density)
pins: 1, 2

## EEEFK1A331P
designator C?, comment 330 мкФ
ALSMD 8.5x10.0 mm 330uF 10V 20% (8 X 10.2mm); Part Number: EEEFK1A331P; Manufacturer: Panasonic Industry; BOM1: ALSMD 8.5x10.0 mm -330 uF±20 %-10 V; BOM2: ALSMD 8.5x10.0 mm -330 мкФ±20 %-10В; ValueBOM: EEEFK1A331P   Panasonic Industry                            (ALSMD 8.5x10.0 mm -330 мкФ±20 %-10В); Value: 330 мкФ; Package: ALSMD 8.5x10.0 mm
footprint CAP ALSMD ELEC 8.5x10.0 mm (Electrolytic Cap, Size E, Size F, 8.3X10)
pins: 1, 2

## EEEFK1J220XP
designator C?, comment 22 мкФ
ALSMD 6.3x7.7mm 22 мкФ±20 %-63 В; Part Number: EEEFK1J220XP; Manufacturer: Panasonic; BOM1: SMD 6.3 X 7.7мм 22 uF±20 %-63 V; BOM2: SMD 6.3 X 7.7мм 22 мкФ ±20 % -63 B; ValueBOM: EEEFK1J220XP   Panasonic                            (SMD 6.3 X 7.7мм 22 мкФ ±20 % -63 B); Value: 22 мкФ; Package: SMD 6.3 X 7.7мм
footprint CAP ALSMD ELEC 6.6X6.9MM (Aluminum SMD Electrolytic Capacitor, 6.60mm Land Size, 6.30mm Diameter, 6.90mm Height, 8.00mm Maximum Leads Span)
pins: 1, 2

## EEEFK2A220P
designator C?, comment 22 мкФ
ALSMD 8.5x10.0 mm 22uF 100V 20% (8 X 10.2mm); Part Number: EEEFK2A220P; Manufacturer: Panasonic Industry; BOM1: ALSMD 8.5x10.0 mm -22 uF±20 %-100 V; BOM2: ALSMD 8.5x10.0 mm -22 мкФ±20 %-100В; ValueBOM: EEEFK2A220P   Panasonic Industry                            (ALSMD 8.5x10.0 mm -22 мкФ±20 %-100В); Value: 22 мкФ; Package: ALSMD 8.5x10.0 mm
footprint CAP ALSMD ELEC 8.5x10.0 mm (Electrolytic Cap, Size E, Size F, 8.3X10)
pins: 1, 2

## EEHZA1K220P
designator C?, comment 22 мкФ
Cap Aluminum Polymer Hybrid 22uF 80VDC 20% (8 X 10.2mm) SMD 0.045 Ohm 1550mA 10000h 105C Automotive; Part Number: EEHZA1K220P; Manufacturer: Panasonic Industry; BOM1: ALSMD 8.5x10.0 mm -22 uF±20 %-80 V; BOM2: ALSMD 8.5x10.0 mm -22 мкФ±20 %-80В; ValueBOM: EEHZA1K220P   Panasonic Industry                            (ALSMD 8.5x10.0 mm -22 мкФ±20 %-80В); Value: 22 мкФ; Package: ALSMD 8.5x10.0 mm
footprint CAP ALSMD ELEC 8.5x10.0 mm (Electrolytic Cap, Size E, Size F, 8.3X10)
pins: 1, 2

## EEHZA1V151P
designator C?, comment 150 мкФ
Cap Aluminum Polymer Hybrid 150uF 35VDC 20% (8 X 10.2mm) SMD 0.027 Ohm 2300mA 10000h 105C Automotive; Part Number: EEHZA1V151P; Manufacturer: Panasonic Industry; BOM1: ALSMD 8.5x10.0 mm -150 uF±20 %-33 V; BOM2: ALSMD 8.5x10.0 mm -150 мкФ±20 %-33В; ValueBOM: EEHZA1V151P   Panasonic Industry                            (ALSMD 8.5x10.0 mm -150 мкФ±20 %-33В); Value: 150 мкФ; Package: ALSMD 8.5x10.0 mm
footprint CAP ALSMD ELEC 8.5x10.0 mm (Electrolytic Cap, Size E, Size F, 8.3X10)
pins: 1, 2

## EEHZF1V101P
designator C?, comment 100 мкФ
ALSMD 8.5x10.0 mm 100uF 35V 20% (8 X 10.2mm); Part Number: EEHZF1V101P; Manufacturer: Panasonic Industry; BOM1: ALSMD 8.5x10.0 mm -100 uF±20 %-35 V; BOM2: ALSMD 8.5x10.0 mm -100 мкФ±20 %-35В; ValueBOM: EEHZF1V101P   Panasonic Industry                            (ALSMD 8.5x10.0 mm -100 мкФ±20 %-35В); Value: 100 мкФ; Package: ALSMD 8.5x10.0 mm
footprint CAP ALSMD ELEC 8.5x10.0 mm (Electrolytic Cap, Size E, Size F, 8.3X10)
pins: 1, 2

## EEVFK1H471M
designator C?, comment 470 мкФ
ALSMD 16x16.5 mm 470uF 50V 20%  0.073mA 1610mA 5000h 105C Automotive T/R; Part Number: EEVFK1H471M; Manufacturer: Panasonic Industry; BOM1: ALSMD 16x16.5 mm -470 uF±20 %-50 V; BOM2: ALSMD 16x16.5 mm -470 мкФ±20 %-50В; ValueBOM: EEVFK1H471M   Panasonic Industry                            (ALSMD 16x16.5 mm -470 мкФ±20 %-50В); Value: 470 мкФ; Package: ALSMD 16x16.5 mm
footprint CAP ALSMD ELEC 16x16.5 mm
pins: 1, 2

## EZV221M10RC8
designator C?, comment 220 мкФ
ALSMD 6.3x7.7mm 220 мкФ±20 %-10 В; Part Number: EZV221M10RC8; Manufacturer: Panasonic; BOM1: SMD 6.3 X 7.7мм 220 uF±20 %-10 V; BOM2: SMD 6.3 X 7.7мм 220 мкФ ±20 % -10 B; ValueBOM: EZV221M10RC8   Panasonic                            (SMD 6.3 X 7.7мм 220 мкФ ±20 % -10 B); Value: 220 мкФ; Package: SMD 6.3 X 7.7мм
footprint CAP ALSMD ELEC 6.6X6.9MM (Aluminum SMD Electrolytic Capacitor, 6.60mm Land Size, 6.30mm Diameter, 6.90mm Height, 8.00mm Maximum Leads Span)
pins: 1, 2

## GRM21BR60J226ME39L
designator C?, comment 22 мкФ
SMD 0805 -22 мкФ±10 %-6.3 В -X5R; Part Number: GRM21BR60J226ME39L; Manufacturer: Murata Electronics; BOM1: C0805C-22 uF±10 %-6.3 V-X5R; BOM2: GRM21-22 мкФ ±10 % -6,3 В -X5R; ValueBOM: GRM21BR60J226ME39L   Murata Electronics                            (GRM21-22 мкФ ±10 % -6,3 В -X5R); Value: 22 мкФ; Package: 0805
footprint CAPC_0805_2012N (Chip Capacitor, Body 2.0x1.3mm, IPC Medium Density)
footprint CAPC_0805_2012M (Chip Capacitor, Body 2.0x1.3mm, IPC Low Density)
footprint CAPC_0805_2012L (Chip Capacitor, Body 2.0x1.3mm, IPC High Density)
pins: 1, 2

## GRM21BR61E106KA73L
designator C?, comment 10 мкФ
SMD 0805 -10 мкФ±10 %-25 В -X5R; Part Number: GRM21BR61E106KA73L; Manufacturer: Murata Electronics; BOM1: C0805C-10 uF±10 %-25 V-X5R; BOM2: GRM21-10 мкФ ±10 % -25 В -X5R; ValueBOM: GRM21BR61E106KA73L   Murata Electronics                            (GRM21-10 мкФ ±10 % -25 В -X5R); Value: 10 мкФ; Package: 0805
footprint CAPC_0805_2012N (Chip Capacitor, Body 2.0x1.3mm, IPC Medium Density)
footprint CAPC_0805_2012M (Chip Capacitor, Body 2.0x1.3mm, IPC Low Density)
footprint CAPC_0805_2012L (Chip Capacitor, Body 2.0x1.3mm, IPC High Density)
pins: 1, 2

## GRM31CR61A476ME15L
designator C?, comment 47 мкФ
SMD 1206 -47 мкФ±20 %-10В -X5R; Part Number: GRM31CR61A476ME15L; Manufacturer: Murata; BOM1: C1206C-47 uF±20 %-10 V-X5R; BOM2: C1206С-47 мкФ ±20 % -10 B-X5R; ValueBOM: GRM31CR61A476ME15L   Murata                            (C1206С-47 мкФ ±20 % -10 B-X5R); Value: 47 мкФ; Package: 1206
footprint CAPC_1206_3216N (Chip Capacitor, Body 3.2x1.6mm, IPC Medium Density)
footprint CAPC_1206_3216M (Chip Capacitor, Body 3.2x1.6mm, IPC Low Density)
footprint CAPC_1206_3216L (Chip Capacitor, Body 3.2x1.6mm, IPC High Density)
pins: 1, 2

## GRM32DC72A475KE01L
designator C?, comment 4.7 мкФ
SMD 1210 -4.7 мкФ±10 %-100В -X7S; Part Number: GRM32DC72A475KE01L; Manufacturer: Murata Electronics; BOM1: C1210C-4.7 uF±10 %-100 V-X7S; BOM2: C1210С-4.7 мкФ ±10 % -100 B-X7S; ValueBOM: GRM32DC72A475KE01L   Murata Electronics                            (C1210С-4.7 мкФ ±10 % -100 B-X7S); Value: 4.7 мкФ; Package: 1210
footprint CAPC_1210_3225N (Chip Capacitor, Body 3.2x2.5mm, IPC Medium Density)
footprint CAPC_1210_3225M (Chip Capacitor, Body 3.2x2.5mm, IPC Low Density)
footprint CAPC_1210_3225L (Chip Capacitor, Body 3.2x2.5mm, IPC High Density)
pins: 1, 2

## GRM32EC72A106KE05L
designator C?, comment 10 мкФ
SMD 1210 -10 мкФ±10 %-100В -X7S; Part Number: GRM32EC72A106KE05L; Manufacturer: Murata Electronics; BOM1: C1210C-10 uF±10 %-100 V-X7S; BOM2: C1210С-10 мкФ ±10 % -100 B-X7S; ValueBOM: GRM32EC72A106KE05L   Murata Electronics                            (C1210С-10 мкФ ±10 % -100 B-X7S); Value: 10 мкФ; Package: 1210
footprint CAPC_1210_3225N (Chip Capacitor, Body 3.2x2.5mm, IPC Medium Density)
footprint CAPC_1210_3225M (Chip Capacitor, Body 3.2x2.5mm, IPC Low Density)
footprint CAPC_1210_3225L (Chip Capacitor, Body 3.2x2.5mm, IPC High Density)
pins: 1, 2

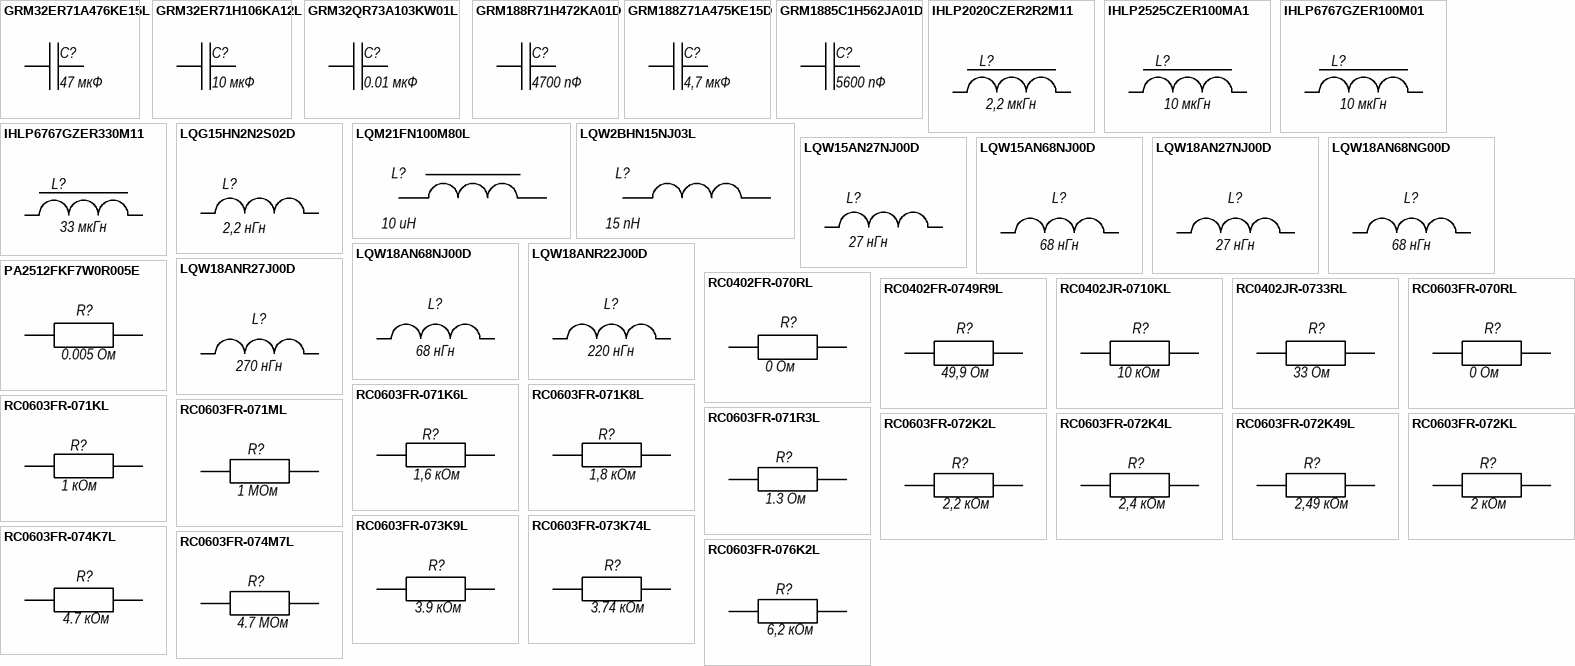
[diagram p2: symbols GRM32ER71A476KE15L to RC0603FR-076K2L]

## GRM32ER71A476KE15L
designator C?, comment 47 мкФ
SMD 1210 -47 мкФ±10 %-10В -X7R; Part Number: GRM32ER71A476KE15L; Manufacturer: Murata Electronics; BOM1: C1210C-47 uF±10 %-10 V-X7R; BOM2: C1210С-47 мкФ ±10 % -10 B-X7R; ValueBOM: GRM32ER71A476KE15L   Murata Electronics                            (C1210С-47 мкФ ±10 % -10 B-X7R); Value: 47 мкФ; Package: 1210
footprint CAPC_1210_3225N (Chip Capacitor, Body 3.2x2.5mm, IPC Medium Density)
footprint CAPC_1210_3225M (Chip Capacitor, Body 3.2x2.5mm, IPC Low Density)
footprint CAPC_1210_3225L (Chip Capacitor, Body 3.2x2.5mm, IPC High Density)
pins: 1, 2

## GRM32ER71H106KA12L
designator C?, comment 10 мкФ
SMD 1210 -10 мкФ±10 %-50В -X7R; Part Number: GRM32ER71H106KA12L; Manufacturer: Murata Electronics; BOM1: C1210C-10 uF±10 %-50 V-X7R; BOM2: C1210С-10 мкФ ±10 % -50 B-X7R; ValueBOM: GRM32ER71H106KA12L   Murata Electronics                            (C1210С-10 мкФ ±10 % -50 B-X7R); Value: 10 мкФ; Package: 1210
footprint CAPC_1210_3225N (Chip Capacitor, Body 3.2x2.5mm, IPC Medium Density)
footprint CAPC_1210_3225M (Chip Capacitor, Body 3.2x2.5mm, IPC Low Density)
footprint CAPC_1210_3225L (Chip Capacitor, Body 3.2x2.5mm, IPC High Density)
pins: 1, 2

## GRM32QR73A103KW01L
designator C?, comment 0.01 мкФ
Cap Ceramic 0.01uF 1000V X7R 10% Pad SMD 1210; Part Number: GRM32QR73A103KW01L; Manufacturer: Murata Electronics; BOM1: C1210C-0.01 uF±10 %-1000 V-X7R; BOM2: C1210С-0.01 мкФ ±10 % -1000 B-X7R; ValueBOM: GRM32QR73A103KW01L   Murata Electronics                            (C1210С-0.01 мкФ ±10 % -1000 B-X7R); Value: 0.01 мкФ; Package: 1210
footprint CAPC_1210_3225N (Chip Capacitor, Body 3.2x2.5mm, IPC Medium Density)
footprint CAPC_1210_3225M (Chip Capacitor, Body 3.2x2.5mm, IPC Low Density)
footprint CAPC_1210_3225L (Chip Capacitor, Body 3.2x2.5mm, IPC High Density)
pins: 1, 2

## GRM188R71H472KA01D
designator C?, comment 4700 пФ
SMD 0603 -4700 пФ±10 %-50В -X7R; Part Number: GRM188R71H472KA01D; Manufacturer: Yageo; BOM1: C0603C-4700 pF±10 %-50 V-X7R; BOM2: C0603С-4700 пФ ±10 % -50 B-X7R; ValueBOM: GRM188R71H472KA01D   Yageo                            (C0603С-4700 пФ ±10 % -50 B-X7R); Value: 4700 пФ; Package: 0603
footprint CAPC_0603_1608N (Chip Capacitor, Body 1.6x0.8mm, IPC Medium Density)
footprint CAPC_0603_1608M (Chip Capacitor, Body 1.6x0.8mm, IPC Low Density)
footprint CAPC_0603_1608L (Chip Capacitor, Body 1.6x0.8mm, IPC High Density)
pins: 1, 2

## GRM188Z71A475KE15D
designator C?, comment 4,7 мкФ
SMD 0603 -4,7 мкФ±10 %-10В -X7R; Part Number: GRM188Z71A475KE15D; Manufacturer: MURATA; BOM1: C0603C-4,7 uF±10 %-10 V-X7R; BOM2: GRM188-4,7 мкФ ±10 % -10 В -X7R; ValueBOM: GRM188Z71A475KE15D   MURATA                            (GRM188-4,7 мкФ ±10 % -10 В -X7R); Value: 4,7 мкФ; Package: 0603
footprint CAPC_0603_1608N (Chip Capacitor, Body 1.6x0.8mm, IPC Medium Density)
footprint CAPC_0603_1608M (Chip Capacitor, Body 1.6x0.8mm, IPC Low Density)
footprint CAPC_0603_1608L (Chip Capacitor, Body 1.6x0.8mm, IPC High Density)
pins: 1, 2

## GRM1885C1H562JA01D
designator C?, comment 5600 пФ
SMD 0603 -5600 пФ±5 %-50В -NP0; Part Number: GRM1885C1H562JA01D; Manufacturer: Murata Electronics; BOM1: C0603C-5600 pF±5 %-50 V-NP0; BOM2: C0603С-5600 пФ ±5 % -50 B-NPO; ValueBOM: GRM1885C1H562JA01D   Murata Electronics                            (C0603С-5600 пФ ±5 % -50 B-NPO); Value: 5600 пФ; Package: 0603
footprint CAPC_0603_1608N (Chip Capacitor, Body 1.6x0.8mm, IPC Medium Density)
footprint CAPC_0603_1608M (Chip Capacitor, Body 1.6x0.8mm, IPC Low Density)
footprint CAPC_0603_1608L (Chip Capacitor, Body 1.6x0.8mm, IPC High Density)
pins: 1, 2

## IHLP2020CZER2R2M11
designator L?, comment 2,2 мкГн
Inductor Power Shielded Wirewound 2.2uH 20% 100KHz Powdered Iron 6.75A 25mOhm DCR 2020 T/R; Part Number: IHLP2020CZER2R2M11; Manufacturer: Vishay; BOM1: SMD IHLP2020CZER2R2M11 2,2 uHr±20% 6.75 A; ValueBOM: IHLP2020CZER2R2M11   Vishay                            (SMD IHLP2020CZER2R2M11 2,2 uHr±20% 6.75 A); Value: 2,2 мкГн; Package: IHLP2020; BOM2: SMD IHLP2020CZER2R2M11 2,2 uHr±20% 6.75 A
footprint BEADC5252X300N
pins: 1, 2

## IHLP2525CZER100MA1
designator L?, comment 10 мкГн
IHLP2525CZER100MA1 SMD 6.86*6.47*3 Inductor Power 10 uHr±20% 3 A; Manufacturer: Vishay; BOM1: SMD 6.86*6.47*3 IHLP2525CZER100MA1 10 uHr±20% 3 A; BOM2: SMD 6.86*6.47*3 IHLP2525CZER100MA1 10 мкГн±20% 3 А; ValueBOM: IHLP2525CZER100MA1   Vishay                            ( SMD 6.86*6.47*3 IHLP2525CZER100MA1 10 мкГн±20% 3 А); Part Number: IHLP2525CZER100MA1; Value: 10 мкГн; Package: SMD 6.86*6.47*3
footprint INDPM6965X300N (SMD 6.86*6.47*3)
pins: 1, 2

## IHLP6767GZER100M01
designator L?, comment 10 мкГн
Inductor Power Shielded Wirewound 10uH 20% 100KHz Powdered Iron 16.5A 12mOhm DCR 6767 T/R; Part Number: IHLP6767GZER100M01; Manufacturer: Vishay; BOM1: SMD IHLP6767 10 uHr±20% 16.5 A; BOM2: SMD IHLP6767 10 мкГн±20% 16.5 А; ValueBOM: IHLP6767GZER100M01   Vishay                            (SMD IHLP6767 10 мкГн±20% 16.5 А); Value: 10 мкГн; Package: IHLP6767
footprint MPX1D1770 (MPX1D1770 = 17x17x7.0 mm)
pins: 1, 2

## IHLP6767GZER330M11
designator L?, comment 33 мкГн
Inductor Power Shielded Wirewound 33uH 20% 100KHz Powdered Iron 10.7A 37mOhm DCR 6767 T/R; Part Number: IHLP6767GZER330M11; Manufacturer: Vishay; BOM1: SMD IHLP5050CEER4R7M01 33 uHr±20% 10 A; BOM2: SMD IHLP5050CEER4R7M01 33 мкГн±20% 10 А; ValueBOM: IHLP6767GZER330M11   Vishay                            (SMD IHLP5050CEER4R7M01 33 мкГн±20% 10 А); Value: 33 мкГн; Package: IHLP6767
footprint MPX1D1770 (MPX1D1770 = 17x17x7.0 mm)
pins: 1, 2

## LQG15HN2N2S02D
designator L?, comment 2,2 нГн
SMD 0402 -2,2 нГн±5% 0,9 A; Part Number: LQG15HN2N2S02D; Manufacturer: Murata; BOM1: L0402 -2,2n Hr±5% 0,9 A; BOM2: LQG15 -2,2 нГн±5% 0,9 A; ValueBOM: LQG15HN2N2S02D   Murata                            (LQG15 -2,2 нГн±5% 0,9 A); Value: 2,2 нГн; Package: 0402
footprint INDC_0402_1005N (Chip Inductor, Body 1.1x0.5mm, IPC Medium Density)
footprint INDC_0402_1005M (Chip Inductor, Body 1.1x0.5mm, IPC Low Density)
footprint INDC_0402_1005L (Chip Inductor, Body 1.1x0.5mm, IPC High Density)
pins: 1, 2

## LQM21FN100M80L
designator L?, comment 10 uH
0805-10 uH±20%; Part Number: LQM21FN100M80L; Manufacturer: Murata; Raw Value: 0.00001; Tolerance: ±20%; Maximum Сurrent: 0.1A; Value: 10 uH; Package: 0805; Temperature Range: -55°C…+155°C
footprint INDC_0805_2012L (Chip Inductor, Body 2.0x1.3mm, IPC High Density)
footprint INDC_0805_2012M (Chip Inductor, Body 2.0x1.3mm, IPC Low Density)
footprint INDC_0805_2012N (Chip Inductor, Body 2.0x1.3mm, IPC Medium Density)
pins: 1, 2

## LQW2BHN15NJ03L
designator L?, comment 15 nH
0805-15 nH±5%; Part Number: LQW2BHN15NJ03L; Manufacturer: Murata; Raw Value: 0.000000015; Tolerance: ±5%; Maximum Сurrent: 0.63A; Value: 15 nH; Package: 0805; Temperature Range: -55°C…+155°C
footprint INDC_0805_2012L (Chip Inductor, Body 2.0x1.3mm, IPC High Density)
footprint INDC_0805_2012M (Chip Inductor, Body 2.0x1.3mm, IPC Low Density)
footprint INDC_0805_2012N (Chip Inductor, Body 2.0x1.3mm, IPC Medium Density)
pins: 1, 2